# Altium schematic symbol library S8050_SOT23.SchLib: 1 symbol
Pins are listed as number, name and electrical type; pins without a type are passive.

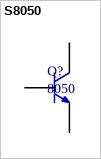
[diagram p0: symbol S8050]

## S8050
designator Q?, comment 8050
NPN三极管
footprint S8050_SOT23 (NPN三极管)
pins: 1, 2, 3